# EAGLE library part LTC2954 (library kwoo)
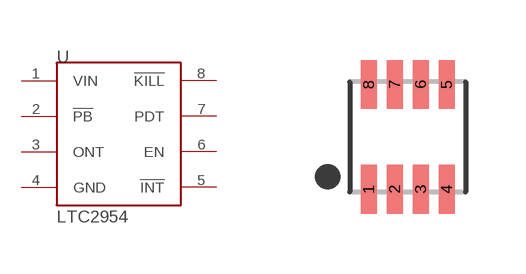
[diagram p52: symbol with the pads of 8-TSOT23; footprint 8-TSOT23]

Designator prefix U

## LTC2954  [8-TSOT23]
1  VIN
2  !PB
3  ONT
4  GND
5  !INT
6  EN
7  PDT
8  !KILL

## Footprint 8-TSOT23 (pad centres in mm)
TSOT-23, 8 pin. From the LTC2954 datasheet
smd 0.4 x 1.22: 1 -0.975,-1.31; 2 -0.325,-1.31; 3 0.325,-1.31; 4 0.975,-1.31; 5 0.975,1.31; 6 0.325,1.31; 7 -0.325,1.31; 8 -0.975,1.31